# EAGLE library part SL3S4011FHK (library Deegou_IC)
NXP - SL3S4011FHK - RFID READ/WRITE, 840-960MHZ, XQFN-8 Source: Datasheet <https://www.nxp.com/docs/en/data-sheet/SL3S4011_4021.pdf>
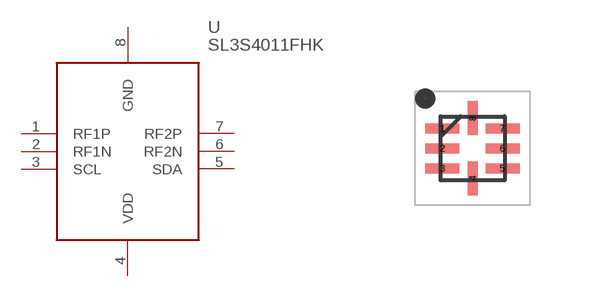
[diagram p141: symbol with the pads of QFN50P160X160X50-8N; footprint QFN50P160X160X50-8N]

Designator prefix U

## SL3S4011FHK (ARROW_PART_NUMBER: SL3S4011FHK; DESCRIPTION: NXP - SL3S4011FHK - RFID READ/WRITE, 840-960MHZ, XQFN-8; HEIGHT: 0.5mm; MANUFACTURER_NAME: NXP; MANUFACTURER_PART_NUMBER: SL3S4011FHK)  [QFN50P160X160X50-8N]
1  RF1P  in
2  RF1N  in
3  SCL
4  VDD  pwr
5  SDA
6  RF2N  in
7  RF2P  in
8  GND  pwr

## Footprint QFN50P160X160X50-8N (pad centres in mm)
XQFN8 (SOT902-3)
smd 0.85 x 0.25: 1 -0.75,0.5; 2 -0.75,0; 3 -0.75,-0.5; 5 0.75,-0.5; 6 0.75,0; 7 0.75,0.5
smd 0.25 x 0.85: 4 0,-0.75; 8 0,0.75